# EAGLE library part CYRAS_CC2640_BREAKOUT (library DLOCK_DAUGHTER_CARD_V0.2)
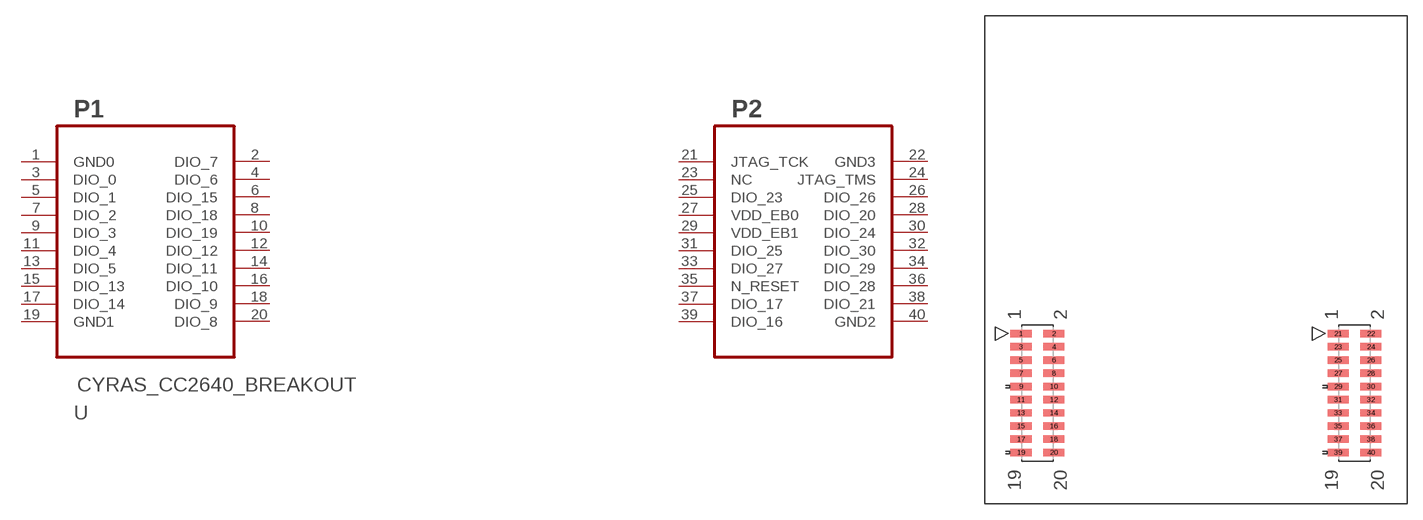
[diagram p1: symbol with the pads of CYRAS_CC2640_BREAKOUT; footprint CYRAS_CC2640_BREAKOUT]

Designator prefix -

## CYRAS_CC2640_BREAKOUT  [CYRAS_CC2640_BREAKOUT]
1  GND0  pas
2  DIO_7  pas
3  DIO_0  pas
4  DIO_6  pas
5  DIO_1  pas
6  DIO_15  pas
7  DIO_2  pas
8  DIO_18  pas
9  DIO_3  pas
10  DIO_19  pas
11  DIO_4  pas
12  DIO_12  pas
13  DIO_5  pas
14  DIO_11  pas
15  DIO_13  pas
16  DIO_10  pas
17  DIO_14  pas
18  DIO_9  pas
19  GND1  pas
20  DIO_8  pas
21  JTAG_TCK  pas
22  GND3  pas
23  NC  pas
24  JTAG_TMS  pas
25  DIO_23  pas
26  DIO_26  pas
27  VDD_EB0  pas
28  DIO_20  pas
29  VDD_EB1  pas
30  DIO_24  pas
31  DIO_25  pas
32  DIO_30  pas
33  DIO_27  pas
34  DIO_29  pas
35  N_RESET  pas
36  DIO_28  pas
37  DIO_17  pas
38  DIO_21  pas
39  DIO_16  pas
40  GND2  pas

## Footprint CYRAS_CC2640_BREAKOUT (pad centres in mm)
smd 2.032 x 0.711: 1 -7.925,12.065; 2 -4.775,12.065; 3 -7.925,10.795; 4 -4.775,10.795; 5 -7.925,9.525; 6 -4.775,9.525; 7 -7.925,8.255; 8 -4.775,8.255; 9 -7.925,6.985; 10 -4.775,6.985; 11 -7.925,5.715; 12 -4.775,5.715; 13 -7.925,4.445; 14 -4.775,4.445; 15 -7.925,3.175; 16 -4.775,3.175; 17 -7.925,1.905; 18 -4.775,1.905; 19 -7.925,0.635; 20 -4.775,0.635; 21 22.555,12.065; 22 25.705,12.065; 23 22.555,10.795; 24 25.705,10.795; 25 22.555,9.525; 26 25.705,9.525; 27 22.555,8.255; 28 25.705,8.255; 29 22.555,6.985; 30 25.705,6.985; 31 22.555,5.715; 32 25.705,5.715; 33 22.555,4.445; 34 25.705,4.445; 35 22.555,3.175; 36 25.705,3.175; 37 22.555,1.905; 38 25.705,1.905; 39 22.555,0.635; 40 25.705,0.635